# Altium schematic symbol library MikesLib.SchLib: 17 symbols
Pins are listed as number, name and electrical type; pins without a type are passive.

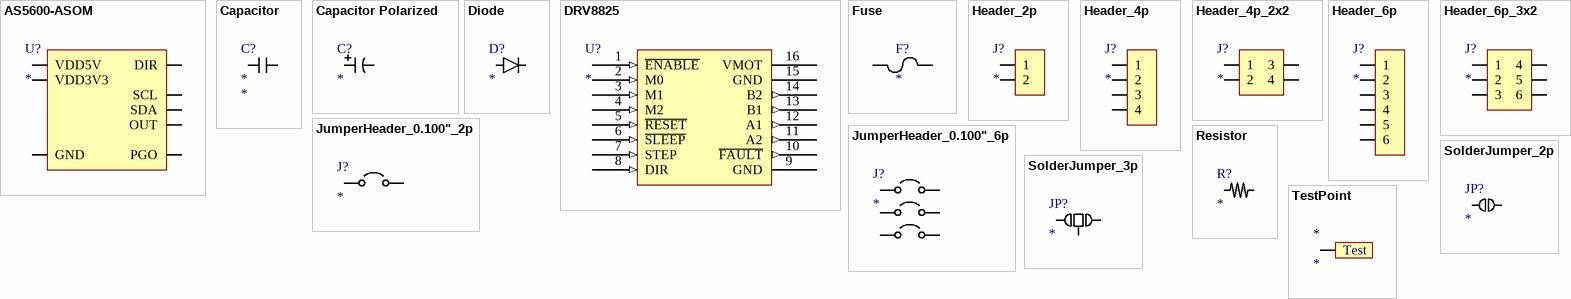
[diagram p0: symbols AS5600-ASOM to TestPoint]

## AS5600-ASOM
designator U?
12-bit contactless encoder using diametrically polarized magnet
footprint SOIC-8 (SOIC-8, 0.154" (3.9mm) width, Overall L by W 0.193" by 0.236" (4.9mm by 6mm))
pins: 1 VDD5V, 2 VDD3V3, 3 OUT, 4 GND, 5 PGO, 6 SDA, 7 SCL, 8 DIR

## Capacitor
designator C?
Value: *
footprint 0805
pins: 1, 2

## Capacitor Polarized
designator C?
footprint Capacitor_UVZ2A101MPD (Electrolytic capacitor, 100uF, 100V, 5mm, 22mm); pin to pad A>1 K>2
pins: A, K
text: +

## Diode
designator D?
pins: 15, 16

## DRV8825
designator U?
Stepper motor driver
footprint DRV8825
pins: 1 ~{ENABLE} (in), 2 M0 (in), 3 M1 (in), 4 M2 (in), 5 ~{RESET} (in), 6 ~{SLEEP} (in), 7 STEP (in), 8 DIR (in), 9 GND (power), 10 ~{FAULT} (out), 11 A2 (out), 12 A1 (out), 13 B1 (out), 14 B2 (out), 15 GND (power), 16 VMOT (power)

## Fuse
designator F?
footprint 1812_PTC (Digikey - 507-1768-1-ND (24V 1.1A Ih))
pins: 1, 2

## Header_2p
designator J?
footprint JumperHeader_0.100"_2p
pins: 1, 2

## Header_4p
designator J?
footprint JST-XH_4p (JST-XH 4p 0.098". Footprint sized to 0.100")
footprint BareWire_4p
pins: 1, 2, 3, 4

## Header_4p_2x2
designator J?
footprint MOLEX_MiniFitJr_4p (Digikey - WM3844-ND use with WM13116-ND)
pins: 1, 2, 3, 4

## Header_6p
designator J?
footprint JST-XH_4p (JST-XH 4p 0.098". Footprint sized to 0.100")
pins: 1, 2, 3, 4, 5, 6

## Header_6p_3x2
designator J?
footprint MOLEX_MiniFitJr_6p (Digikey - WM3845-ND use with WM16239-ND)
pins: 1, 2, 3, 4, 5, 6

## JumperHeader_0.100"_2p
designator J?
footprint JumperHeader_0.100"_2p
pins: 1, 2

## JumperHeader_0.100"_6p
designator J?
footprint JumperHeader_0.100"_6p
pins: 1, 2, 3, 4, 5, 6

## Resistor
designator R?
footprint 0805
pins: 1, 2

## SolderJumper_2p
designator JP?
footprint SolderJumper_2p
pins: 1, 2

## SolderJumper_3p
designator JP?
footprint SolderJumper_3p
pins: 1, 2, 3

## TestPoint
designator *
footprint TestPoint
pins: 1
text: Test